# Altium schematic symbol library BL9341.Schlib: 1 symbol
Pins are listed as number, name and electrical type; pins without a type are passive.

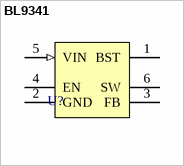
[diagram p0: symbol BL9341]

## BL9341
designator U?
pins: 1 BST, 2 GND (power), 3 FB, 4 EN, 5 VIN (in), 6 SW